# Altium footprint library SparkFun-DiscreteSemi.PCBLIB: 44 footprints (part 1 of 3)
Each footprint in its own frame and in the unit in brackets; x right, y up, seen from the top. Pads: shape width x height; smd on the part's side, far side on the other; paste and mask are expansions set on the pad; w line width, h text height; cw(c..) or ccw(c..) is an arc to the next point about the centre after c.
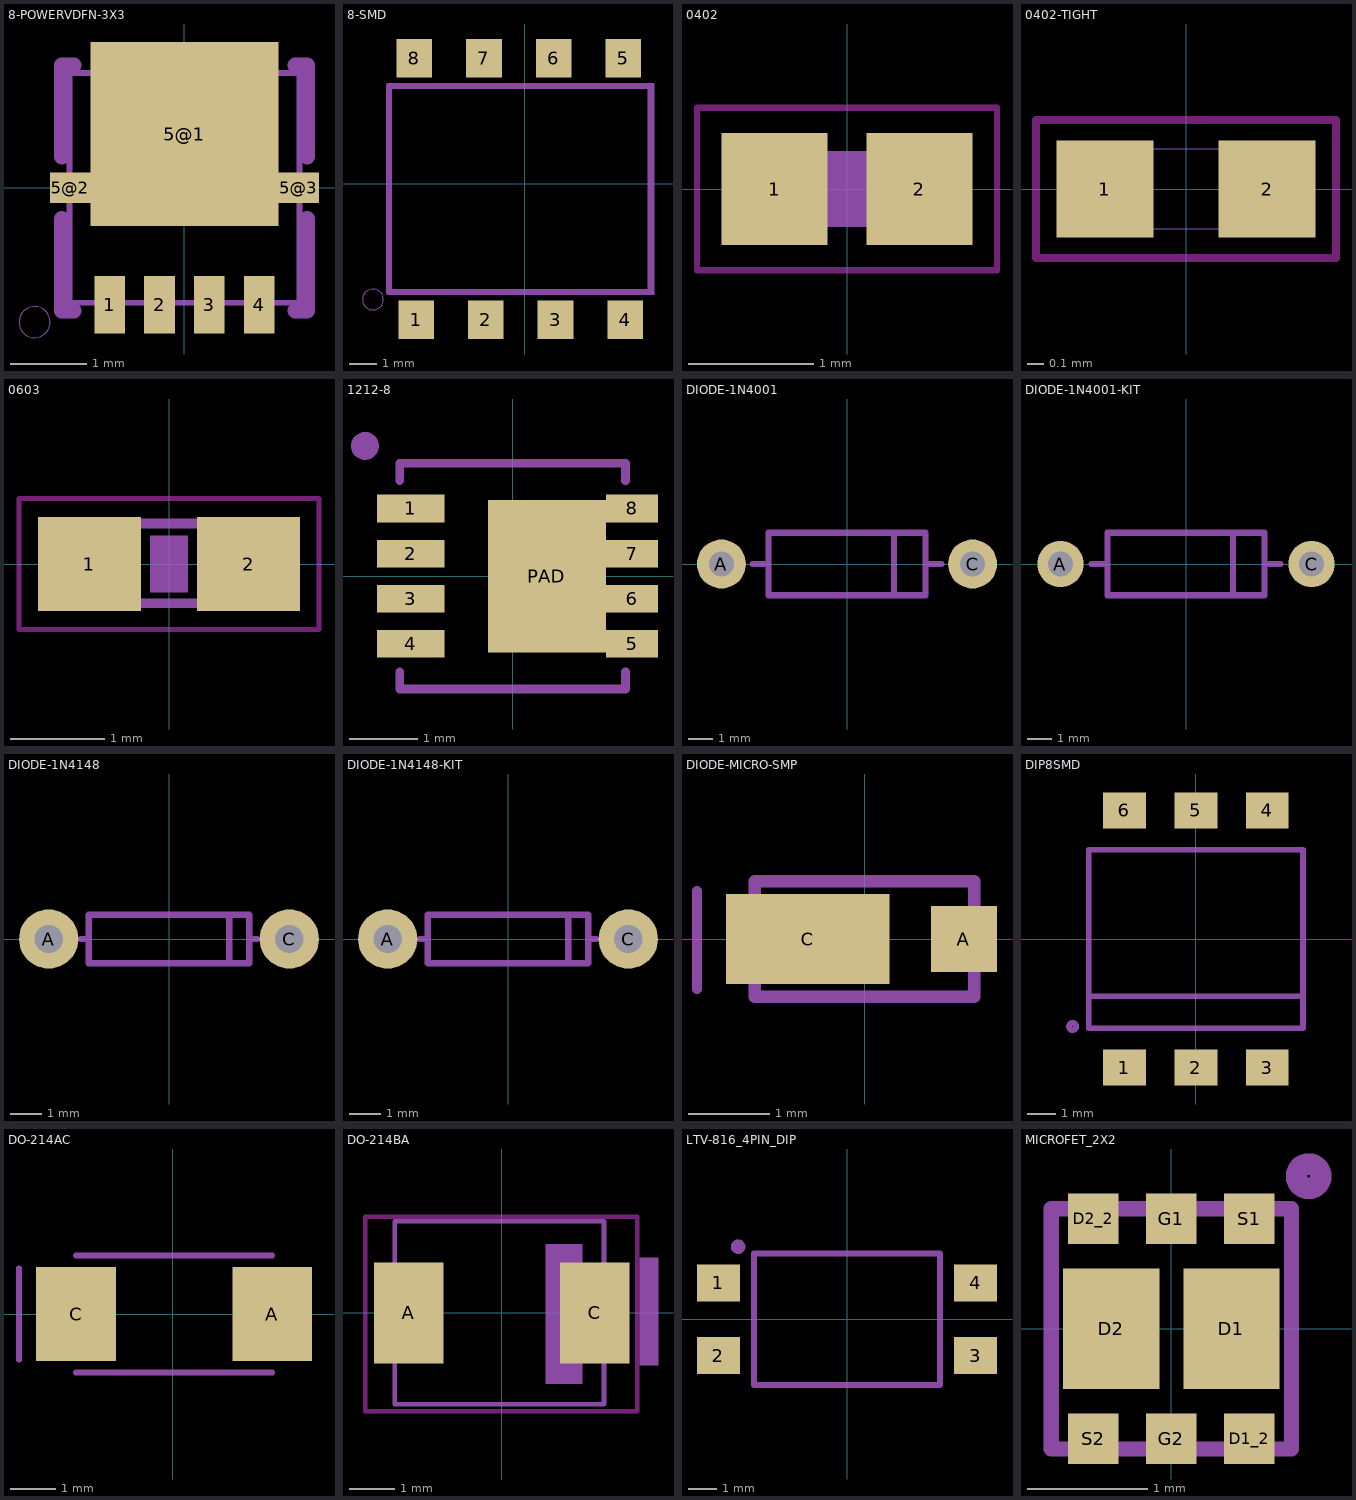
[diagram p0: the footprints below, top view; thin cyan lines are the x and y axes]

## 8-POWERVDFN-3X3 [mm]
pads (7):
  rect 0.4x0.75 smd: 1(-0.975,-1.525) 2(-0.325,-1.525) 3(0.325,-1.525) 4(0.975,-1.525)
  rect 2.45x2.4 smd: 5@1(0,0.7)
  rect 0.53x0.4 smd: 5@2(-1.49,0) 5@3(1.49,0)
tDocu:
  region: 1.125,-1.25 1.125,-1.65 0.825,-1.65 0.825,-1.25
  region: 0.475,-1.25 0.475,-1.65 0.175,-1.65 0.175,-1.25
  region: -0.175,-1.25 -0.175,-1.65 -0.475,-1.65 -0.475,-1.25
  region: -0.825,-1.25 -0.825,-1.65 -1.125,-1.65 -1.125,-1.25
  region: -1.125,1.25 -1.125,1.65 -0.825,1.65 -0.825,1.25
  region: -0.475,1.25 -0.475,1.65 -0.175,1.65 -0.175,1.25
  region: 0.175,1.25 0.175,1.65 0.475,1.65 0.475,1.25
  region: 0.825,1.25 0.825,1.65 1.125,1.65 1.125,1.25
  region: 1.125,1.25 1.125,-0.45 -1.125,-0.45 -1.125,1.25
  region: 1.65,0.15 1.65,-0.15 1.125,-0.15 1.125,0.15
  region: -1.65,-0.15 -1.65,0.15 -1.125,0.15 -1.125,-0.15
  lines w0.076: -1.5,-1.5 1.5,-1.5 1.5,1.5 -1.5,1.5 -1.5,-1.5
tPlace:
  circle w0: c-1.956,-1.753 r0.203
  lines w0.203: -1.602,-0.405 -1.602,-1.602 -1.446,-1.602 ; -1.602,0.405 -1.602,1.602 -1.446,1.602 ; 1.446,-1.602 1.602,-1.602 1.602,-0.405 ; 1.446,1.602 1.602,1.602 1.602,0.405

## 8-SMD [mm]
pads (8):
  rect 1.3x1.4 smd: 1(-3.96,-4.96) 2(-1.42,-4.96) 3(1.12,-4.96) 4(3.66,-4.96) 5(3.59,4.58) 6(1.05,4.58) 7(-1.49,4.58) 8(-4.03,4.58)
tDocu:
  lines w0.1: 4.68,-3.98 4.68,3.62 -5,3.62 -5,-4 4.69,-4
tPlace:
  circle w0: c-5.538,-4.221 r0.381
  lines w0.203: -4.953,-3.937 4.572,-3.937 4.572,3.556 -4.953,3.556 -4.953,-3.937

## 0402 [mm]
pads (2):
  rect 0.85x0.9 smd: 1(-0.58,0) 2(0.58,0)
Top keep-out:
  lines w0.051: -1.2,-0.65 1.2,-0.65 1.2,0.65 -1.2,0.65 -1.2,-0.65
tDocu:
  region: -0.554,-0.305 -0.554,0.305 -0.254,0.305 -0.254,-0.305
  region: 0.259,-0.305 0.259,0.305 0.559,0.305 0.559,-0.305
  lines w0.152: -0.271,-0.229 0.271,-0.229 ; -0.271,0.229 0.271,0.229
tGlue:
  region: -0.2,-0.3 -0.2,0.3 0.2,0.3 0.2,-0.3

## 0402-TIGHT [mm]
pads (2):
  rect 0.6x0.6 smd: 1(-0.5,0) 2(0.5,0)
Top keep-out:
  lines w0.05: -0.926,-0.426 -0.926,0.426 0.926,0.426 0.926,-0.426 -0.926,-0.426
tDocu:
  region: -0.5,-0.25 -0.5,0.25 -0.3,0.25 -0.3,-0.25
  region: 0.5,0.25 0.5,-0.25 0.3,-0.25 0.3,0.25
  lines w0.003: -0.5,-0.25 -0.5,0.25 0.5,0.25 0.5,-0.25 -0.5,-0.25

## 0603 [mm]
pads (2):
  rect 1.1x1 smd: 1(-0.85,0) 2(0.85,0)
Top keep-out:
  lines w0.051: -1.6,-0.7 1.6,-0.7 1.6,0.7 -1.6,0.7 -1.6,-0.7
tDocu:
  region: -0.838,-0.47 -0.838,0.48 -0.338,0.48 -0.338,-0.47
  region: 0.33,-0.47 0.33,0.48 0.83,0.48 0.83,-0.47
  lines w0.102: -0.356,-0.419 0.356,-0.419 ; -0.356,0.432 0.356,0.432
tGlue:
  region: -0.2,-0.3 -0.2,0.3 0.2,0.3 0.2,-0.3

## 1212-8 [mm]
pads (9):
  rect 0.99x0.405 smd: 1(-1.49,0.99) 2(-1.49,0.33) 3(-1.49,-0.33) 4(-1.49,-0.99)
  rect 0.76x0.405 smd: 5(1.748,-0.99) 6(1.748,-0.33) 7(1.748,0.33) 8(1.748,0.99)
  rect 1.725x2.235 smd: PAD(0.502,0)
tPlace:
  circle w0.203: c-2.159,1.905 r0.102
  lines w0.127: -1.651,-1.651 -1.651,-1.397 ; -1.651,1.397 -1.651,1.651 ; -1.65,-1.65 1.65,-1.65 ; -1.65,1.65 1.65,1.65 ; 1.651,-1.651 1.651,-1.397 ; 1.651,1.397 1.651,1.651

## DIODE-1N4001 [mil]
pads (2):
  round 78 hole 39.37: A(-200,0) C(200,0)
tPlace:
  lines w10: -150,0 -125,0 ; 150,0 125,0 ; -125,0 -125,50 75,50 ; -125,0 -125,-50 75,-50 ; 75,-50 125,-50 125,0 ; 75,-50 75,50 ; 75,50 125,50 125,0

## DIODE-1N4001-KIT [mil]
pads (2):
  round 74 hole 40: A(-200,0) C(200,0)
Top Solder:
  circle w0: c-200,0 r20
  circle w0: c200,0 r20
Bottom Solder:
  circle w0: c-200,0 r39
  circle w0: c200,0 r39
tPlace:
  lines w10: -150,0 -125,0 ; 150,0 125,0 ; -125,0 -125,50 75,50 ; -125,0 -125,-50 75,-50 ; 75,-50 125,-50 125,0 ; 75,-50 75,50 ; 75,50 125,50 125,0

## DIODE-1N4148 [mil]
pads (2):
  round 74 hole 35.43: A(-150,0) C(150,0)
tPlace:
  lines w8: -110,0 -100,0 ; 75,-25 75,25 ; 110,0 100,0 ; -100,0 -100,-30 100,-30 100,0 ; -100,0 -100,30 100,30 100,0

## DIODE-1N4148-KIT [mil]
pads (2):
  round 74 hole 35.43: A(-150,0) C(150,0)
Top Solder:
  circle w0: c-150,0 r18
  circle w0: c-150,0 r18
  circle w0: c150,0 r18
Bottom Solder:
  circle w0: c-150,0 r37
  circle w0: c150,0 r37
tPlace:
  lines w8: -110,0 -100,0 ; 75,-25 75,25 ; 110,0 100,0 ; -100,0 -100,-30 100,-30 100,0 ; -100,0 -100,30 100,30 100,0

## DIODE-MICRO-SMP [mil]
pads (2):
  rect 32x32 smd: A(48,0)
  rect 79x43.4 smd: C(-27.5,0)
tDocu:
  lines w6: -53,-18 -53,18 ; 53,-15 53,15 ; -53,-28 53,-28 53,28 -53,28 -53,-28
tPlace:
  lines w5: -81,-24 -81,23

## DIP8SMD [mil]
pads (6):
  rect 60x50 smd: 1(-100,-180) 2(0,-180) 3(100,-180) 4(100,180) 5(0,180) 6(-100,180)
tPlace:
  circle w8: c-172.5,-122.5 r5
  lines w8: -150,-80 -150,-125 150,-125 150,-80 ; -150,-80 -150,125 150,125 150,-80 ; -150,-80 150,-80

## DO-214AC [mil]
pads (2):
  rect 70x82 smd: A(87,0) C(-85,0)
tPlace:
  lines w5: -135,-40 -135,40 ; -85,-51.25 87,-51.25 ; -85,51.25 87,51.25

## DO-214BA [mil]
pads (2):
  rect 59.84x87.01 smd: A(-80,0) C(80.24,0)
Top keep-out:
  lines w3.94: -117.4,-84.65 -117.4,82.68 116.85,82.68 116.85,-84.65 -117.4,-84.65
tDocu:
  region: 38.11,-61.02 38.11,59.06 69.61,59.06 69.61,-61.02
  lines w3.94: -91.81,-78.74 88.11,-78.74 88.11,78.74 -91.81,78.74 -91.81,-78.74
tPlace:
  region: 118.82,-45.28 118.82,47.24 134.57,47.24 134.57,-45.28

## LTV-816_4PIN_DIP [mm]
pads (4):
  rect 1.5x1.3 smd: 1(-4.5,1.27) 2(-4.5,-1.27) 3(4.5,-1.27) 4(4.5,1.27)
tPlace:
  circle w0.254: c-3.81,2.54 r0.127
  lines w0.203: -3.251,-2.299 -3.251,2.299 3.251,2.299 3.251,-2.299 -3.251,-2.299

## MICROFET_2X2 [mm]
pads (8):
  rect 0.8x1 smd: D1(0.5,0) D2(-0.5,0)
  rect 0.42x0.42 smd: D1_2(0.65,-0.915) D2_2(-0.65,0.915) G1(0,0.915) G2(0,-0.915) S1(0.65,0.915) S2(-0.65,-0.915)
tDocu:
  lines w0.127: -1,-1 1,-1 1,1 -1,1 -1,-1
tPlace:
  circle w0.178: c1.143,1.27 r0.102